# Altium schematic symbol library leds.SchLib: 20 symbols
Pins are listed as number, name and electrical type; pins without a type are passive.

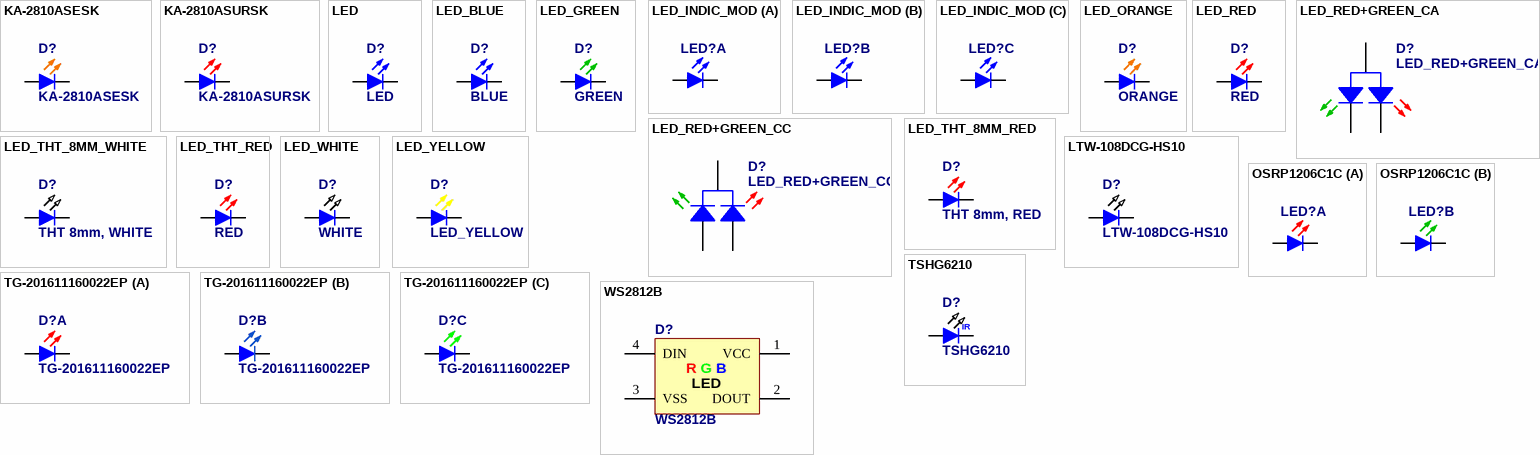
[diagram p0: symbols KA-2810ASESK to WS2812B]

## KA-2810ASESK
designator D?
Published: 04-Apr-2006
footprint LED2810 (SMD 2810 LED case (for e.g. Kingbright KA-2810 series))
pins: 1 K, 2 A

## KA-2810ASURSK
designator D?
Published: 04-Apr-2006
footprint LED2810 (SMD 2810 LED case (for e.g. Kingbright KA-2810 series))
pins: 1 K, 2 A

## LED
designator D?
Typical RED, GREEN, YELLOW, AMBER GaAs LED; Published: 04-Apr-2006
footprint LED
footprint LED V (LED)
footprint LED-Polarized
footprint LED-Polarized - 3mm
footprint LED_UNI
footprint LED1206G
footprint LED1206R
footprint LED1206Y
footprint LED0805B
footprint LED0805G
footprint LED0805O
footprint LED0805R
footprint LED0805Y
footprint LED0603B
footprint LED0603R
footprint LED0603G
footprint LED0603Y
footprint LED0603O
footprint DLx2/6 (20mm BIG LAMPS)
pins: 1 A, 2 K

## LED_BLUE
designator D?, comment BLUE
BLUE LED; Published: 04-Apr-2006
footprint LED0805B
footprint LED0603B
footprint LED1206B
footprint LED3528B
footprint LED5050B
pins: 1 A, 2 K

## LED_GREEN
designator D?, comment GREEN
GREEN LED; Published: 04-Apr-2006
footprint LED1206G
footprint LED0805G
footprint LED0603G
footprint LED3528G
footprint LED5050G
pins: 1 A, 2 K

## LED_INDIC_MOD
designator LED?  (value not drawn)
3x LED Indicator Module
footprint 3xLED
part A pins: 1 K, 2 A
part B pins: 3 K, 4 A
part C pins: 5 K, 6 A

## LED_ORANGE
designator D?, comment ORANGE
ORANGE LED; Published: 04-Apr-2006
footprint LED0805O
footprint LED0603O
footprint LED1206O
footprint LED3528O
footprint LED5050O
pins: 1 A, 2 K

## LED_RED
designator D?, comment RED
RED LED; Published: 04-Apr-2006
footprint LED1206R
footprint LED0805R
footprint LED0603R
footprint LED3528R
footprint LED5050R
pins: 1 A, 2 K

## LED_RED+GREEN_CA
designator D?
Dual Color LED - RED + GREEN, Common Anode; Published: 26-May-2006
footprint L-59BL (KingBright T-1 3/4 (5mm) BI-COLOR RIGHT ANGLE  LED INDICATOR)
footprint DUOLED_3MM (Dual LED)
footprint DUOLED_5MM
pins: 1 KG, 2 A, 3 KR

## LED_RED+GREEN_CC
designator D?
Dual Color LED - RED + GREEN, Common Cathode; Published: 26-May-2006
footprint L-59BL (KingBright T-1 3/4 (5mm) BI-COLOR RIGHT ANGLE  LED INDICATOR)
footprint DUOLED_3MM (Dual LED)
footprint DUOLED_5MM
pins: 1 KG, 2 A, 3 KR

## LED_THT_8MM_RED
designator D?, comment THT 8mm, RED
RED LED; Published: 04-Apr-2006
footprint LED8MM_R_H1 (LED)
pins: 1 A, 2 K

## LED_THT_8MM_WHITE
designator D?, comment THT 8mm, WHITE
WHITE LED; Published: 04-Apr-2006
footprint LED8MM_W_H1 (LED)
pins: 1 A, 2 K

## LED_THT_RED
designator D?, comment RED
Throughole RED LED; Published: 04-Apr-2006
footprint LED5MMR_V (LED)
footprint LED3MMR_V (LED)
footprint FIX-LED1L-2.5
pins: 1 A, 2 K

## LED_WHITE
designator D?, comment WHITE
WHITE LED; Published: 04-Apr-2006
footprint LED0603W
footprint LED5630
pins: 1 A, 2 K

## LED_YELLOW
designator D?
YELLOW LED; Published: 04-Apr-2006
footprint LED1206Y
footprint LED0805Y
footprint LED0603Y
footprint LED3528Y
footprint LED5050Y
pins: 1 A, 2 K

## LTW-108DCG-HS10
designator D?
Published: 04-Apr-2006
footprint LED2810 (SMD 2810 LED case (for e.g. Kingbright KA-2810 series))
pins: 1 K, 2 A

## OSRP1206C1C
designator LED?  (value not drawn)
3.2 x 2.7 x 1.1mm Red & Pure Green SMD LED
footprint OSRP1206
part A pins: 3 A, 4 K
part B pins: 1 A, 2 K

## TG-201611160022EP
designator D?
RGB 1616 (0606) LED; Published: 04-Apr-2006
footprint LED_SMD0606
part A pins: 2 K, 4 A
part B pins: 3 K, 4 A
part C pins: 1 K, 4 A

## TSHG6210
designator D?
IR transmitter; 5mm; 850nm; transparent; 230mW; 10°; THT; 1.5÷1.8V; Published: 04-Apr-2006
footprint LED-502 (FIX&FASTEN)
pins: 1 A, 2 K
text: IR

## WS2812B
designator D?
Intelligent control LED integrated light source
footprint WS2812B (WS2812B Addressable RGB LED)
pins: 1 VCC (power), 2 DOUT (power), 3 VSS (power), 4 DIN (power)
text: R; G; B; LED